# Altium schematic symbol library LM27313.SchLib: 1 symbol
Pins are listed as number, name and electrical type; pins without a type are passive.

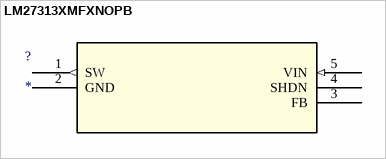
[diagram p0: symbol LM27313XMFXNOPB]

## LM27313XMFXNOPB
designator ?
Imported; Part: No; Manufacturer_Part_Number: LM27313XMFX/NOPB; CompType: Switcher; Vendor: National Semiconductor; Vendor2: NationalSemiconductor; Version2: 1; base_pn: LM27313; Symbol: NameLM27313XMF; 3D_Library_Name: National_Switchers; C: Copyright (C) 2015 Accelerated Designs. All rights reserved; Type: DEV; Version: 05/02/2007; CompType2: Switcher; Copyright: Copyright (C) 2015 Accelerated Designs. All rights reserved; RefDes: RefDes; Value: Value
footprint MF05A
pins: 1 SW (out), 2 GND, 3 FB, 4 SHDN, 5 VIN (in)